# Altium footprint library Audio - Amplifier.PcbLib: 5 footprints
Each footprint in its own frame and in the unit in brackets; x right, y up, seen from the top. Pads: shape width x height; smd on the part's side, far side on the other; paste and mask are expansions set on the pad; w line width, h text height; cw(c..) or ccw(c..) is an arc to the next point about the centre after c.
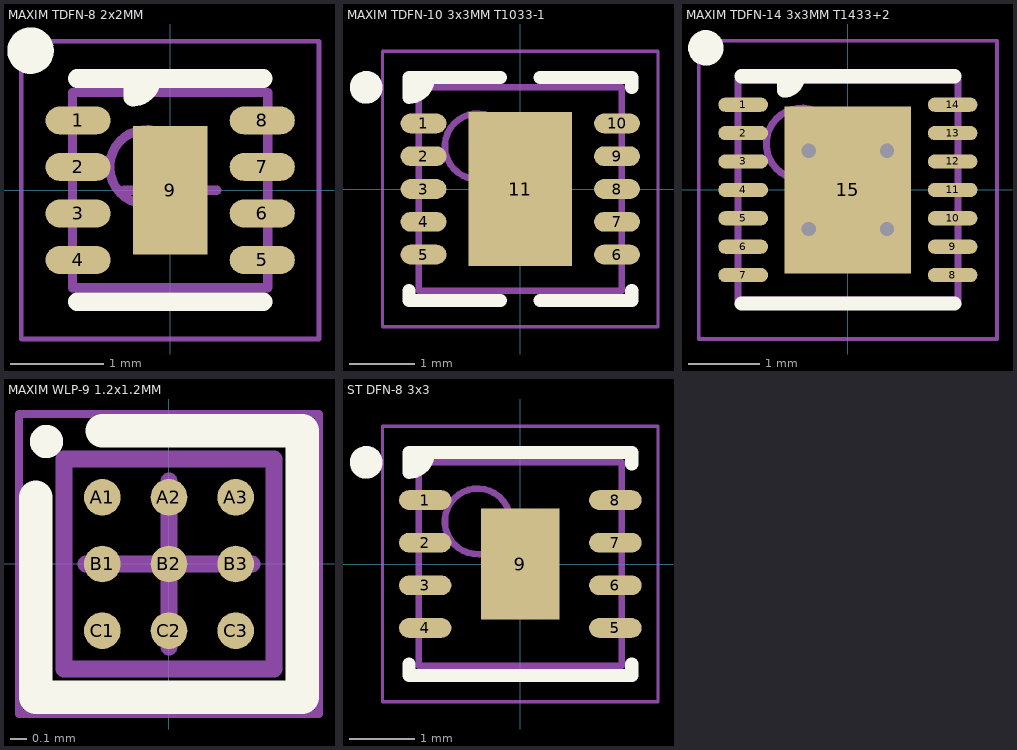
[diagram p0: the footprints below, top view; thin cyan lines are the x and y axes]

## MAXIM TDFN-8 2x2MM [mm] "DFN, 8-Leads, Body 2.00x2.00mm, Pitch 0.50mm, Thermal Pad 0.80x1.38mm, IPC Medium Density"
height 0.8
pads (9):
  oval 0.7x0.3 smd: 1(-0.99,0.75) 2(-0.99,0.25) 3(-0.99,-0.25) 4(-0.99,-0.75) 5(0.99,-0.75) 6(0.99,-0.25) 7(0.99,0.25) 8(0.99,0.75)
  rect 0.8x1.38 smd: 9(0,0)
Top Overlay:
  circle w0.25: c-1.5,1.5 r0.125
  lines w0.2: -1,-1.2 1,-1.2 ; -1,1.2 1,1.2 ; -0.4,1.2 -0.4,1 ccw(c-0.4,1.2) -0.2,1.2
Mechanical 13:
  circle w0.1: c-0.25,0.25 r0.4
  lines w0.1: -1.05,-1.05 -1.05,1.05 1.05,1.05 1.05,-1.05 -1.05,-1.05
Mechanical 15:
  lines w0.05: -1.6,-1.6 -1.6,1.6 1.6,1.6 1.6,-1.6 -1.6,-1.6
  lines w0.1: -0.5,0 0.5,0 ; 0,-0.5 0,0.5
3D body: height 0.8, standoff 0.01, extent -1.05,-1.05 1.05,1.05

## MAXIM TDFN-10 3x3MM T1033-1 [mm] "DFN, 10-Leads, Body 3.00x3.00mm, Pitch 0.50mm, Thermal Pad 1.58x2.35mm, IPC Medium Density"
height 0.8
pads (11):
  oval 0.7x0.3 smd: 1(-1.475,1) 2(-1.475,0.5) 3(-1.475,0) 4(-1.475,-0.5) 5(-1.475,-1) 6(1.475,-1) 7(1.475,-0.5) 8(1.475,0) 9(1.475,0.5) 10(1.475,1)
  rect 1.58x2.35 smd: 11(0,0)
Top Overlay:
  circle w0.25: c-2.35,1.55 r0.125
  region: -1.4,1.7 -1.7,1.7 -1.7,1.4
  lines w0.2: -1.7,-1.55 -1.7,-1.7 -0.3,-1.7 ; -1.4,1.7 cw(c-1.7,1.7) -1.7,1.4 ; -0.3,1.7 -1.7,1.7 -1.7,1.4 ; 0.3,-1.7 1.7,-1.7 1.7,-1.55 ; 0.3,1.7 1.7,1.7 1.7,1.55 ; -1.7,1.4 -1.7,1.4
Mechanical 13:
  circle w0.1: c-0.65,0.65 r0.5
  lines w0.1: -1.55,-1.55 -1.55,1.55 1.55,1.55 1.55,-1.55 -1.55,-1.55
Mechanical 15:
  lines w0.05: -2.1,-2.1 -2.1,2.1 2.1,2.1 2.1,-2.1 -2.1,-2.1
  lines w0.1: -0.5,0 0.5,0 ; 0,-0.5 0,0.5
3D body: height 0.8, standoff 0.01, extent -1.55,-1.55 1.55,1.55

## MAXIM TDFN-14 3x3MM T1433+2 [mm] "DFN, 14-Leads, Body 3.00x3.00mm, Pitch 0.40mm, Thermal Pad 1.78x2.35mm, IPC Medium Density"
height 0.8
pads (15):
  oval 0.7x0.2 smd: 1(-1.475,1.2) 2(-1.475,0.8) 3(-1.475,0.4) 4(-1.475,0) 5(-1.475,-0.4) 6(-1.475,-0.8) 7(-1.475,-1.2) 8(1.475,-1.2) 9(1.475,-0.8) 10(1.475,-0.4) 11(1.475,0) 12(1.475,0.4) 13(1.475,0.8) 14(1.475,1.2)
  rect 1.78x2.35 smd: 15(0,0)
via -0.55,0.55 diameter 0.5 hole 0.2
via 0.55,0.55 diameter 0.5 hole 0.2
via -0.55,-0.55 diameter 0.5 hole 0.2
via 0.55,-0.55 diameter 0.5 hole 0.2
Top Overlay:
  circle w0.25: c-2,2 r0.125
  lines w0.2: -1.5,-1.6 1.5,-1.6 ; -1.5,1.6 1.5,1.6 ; -0.9,1.6 -0.9,1.4 ccw(c-0.9,1.6) -0.7,1.6
Mechanical 13:
  circle w0.1: c-0.65,0.65 r0.5
  lines w0.1: -1.55,-1.55 -1.55,1.55 1.55,1.55 1.55,-1.55 -1.55,-1.55
Mechanical 15:
  lines w0.05: -2.1,-2.1 -2.1,2.1 2.1,2.1 2.1,-2.1 -2.1,-2.1
  lines w0.1: -0.5,0 0.5,0 ; 0,-0.5 0,0.5
3D body: height 0.8, standoff 0.01, extent -1.55,-1.55 1.55,1.55

## MAXIM WLP-9 1.2x1.2MM [mm] "WLP, 9-Leads, Body 1.26x1.26mmx0.64mm, Pitch 0.40mm"
height 0.64
pads (9):
  round 0.22 smd: A1(-0.4,0.4) A2(0,0.4) A3(0.4,0.4) B1(-0.4,0) B2(0,0) B3(0.4,0) C1(-0.4,-0.4) C2(0,-0.4) C3(0.4,-0.4)
Top Overlay:
  circle w0.1: c-0.735,0.735 r0.05
  lines w0.2: -0.8,0.4 -0.8,-0.8 0.8,-0.8 0.8,0.8 -0.4,0.8
Mechanical 13:
  lines w0.1: -0.63,-0.63 0.63,-0.63 0.63,0.63 -0.63,0.63 -0.63,-0.63
Mechanical 15:
  lines w0.05: -0.9,-0.9 0.9,-0.9 0.9,0.9 -0.9,0.9 -0.9,-0.9
  lines w0.1: -0.5,0 0.5,0 ; 0,-0.5 0,0.5
3D body: height 0.64, standoff 0.16, extent -0.63,-0.63 0.63,0.63

## ST DFN-8 3x3 [mm] "DFN, 8-Leads, Body 3.00x3.00mm, Pitch 0.65mm, Thermal Pad 1.20x1.70mm, IPC Medium Density"
height 1
pads (9):
  oval 0.8x0.3 smd: 1(-1.45,0.975) 2(-1.45,0.325) 3(-1.45,-0.325) 4(-1.45,-0.975) 5(1.45,-0.975) 6(1.45,-0.325) 7(1.45,0.325) 8(1.45,0.975)
  rect 1.2x1.7 smd: 9(0,0)
Top Overlay:
  circle w0.25: c-2.35,1.55 r0.125
  region: -1.7,1.7 -1.4,1.7 -1.7,1.4
  lines w0.2: -1.7,-1.525 -1.7,-1.7 1.7,-1.7 1.7,-1.525 ; -1.4,1.7 cw(c-1.7,1.7) -1.7,1.4 -1.7,1.7 1.7,1.7 1.7,1.525
Mechanical 13:
  circle w0.1: c-0.65,0.65 r0.5
  lines w0.1: -1.55,-1.55 -1.55,1.55 1.55,1.55 1.55,-1.55 -1.55,-1.55
Mechanical 15:
  lines w0.05: -2.1,-2.1 -2.1,2.1 2.1,2.1 2.1,-2.1 -2.1,-2.1
  lines w0.1: -0.5,0 0.5,0 ; 0,-0.5 0,0.5
3D body: height 1, standoff 0.01, extent -1.55,-1.55 1.55,1.55